# EAGLE library part WE-UNIT_STM_750871111 (library Wuerth_Elektronik_eiSos_ v6.8)
Off-Line Transformer WE-Unit STM - Nominal input voltage: 85-265 VAC - Operating temperature: -40°C to +125 °C - Isolation voltage 4 kVAC -- Especially designed for several ICs from STMicroelectronics VIPer 27L -- Universal input -- Offline-switch mode power supplies
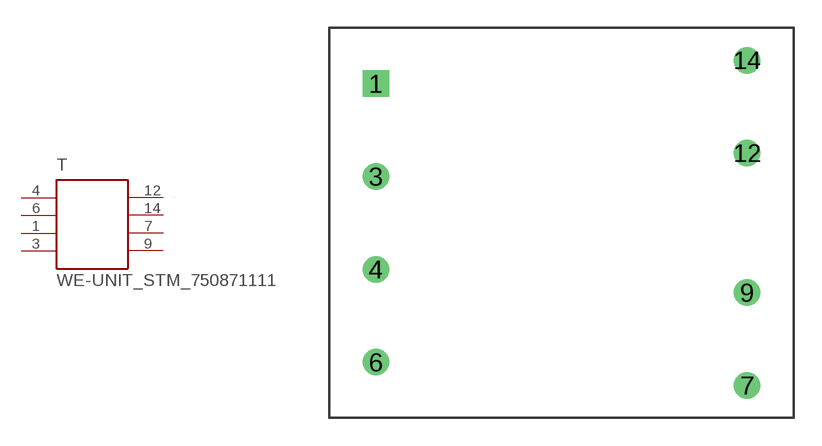
[diagram p83: symbol with the pads of WE_EE20/10/6_THT_HORIZONTAL_8PIN; footprint WE_EE20/10/6_THT_HORIZONTAL_8PIN]

Designator prefix T

## WE-UNIT_STM_750871111  [WE_EE20/10/6_THT_HORIZONTAL_8PIN]
1  2  pas
3  1  pas
4  4  pas
6  3  pas
7  7  pas
9  8  pas
12  5  pas
14  6  pas

## Footprint WE_EE20/10/6_THT_HORIZONTAL_8PIN (pad centres in mm)
Transformer, EE20/10/6 THT Horizontal 8 Pin
drill 0.92 square: 1 -10,7.5
drill 0.92 round: 3 -10,2.5; 4 -10,-2.5; 6 -10,-7.5; 7 10,-8.75; 9 10,-3.75; 12 10,3.75; 14 10,8.75